# EAGLE library part NX3L2467 (library nxp_60_1_1)
The NX3L2467 is a dual low-ohmic double-pole double-throw analog switch suitable for use as an analog or digital multiplexer/demultiplexer. It consists of four switches, each with two independent input/outputs (nY0 and nY1) and a common input/output (nZ). The two digital inputs (1S and 2S) are used to select the switch position. 1S is used in selecting the independent inputs/outputs switched to 1Z and 2Z, and 2S is used in selecting the independent inputs/outputs switched to 3Z and 4Z. Schmitt trigger action at the select input (nS) makes the circuit tolerant to slower input rise and fall times across the entire VCC range from 1.4 V to 4.3 V. AAL Eindhoven MK
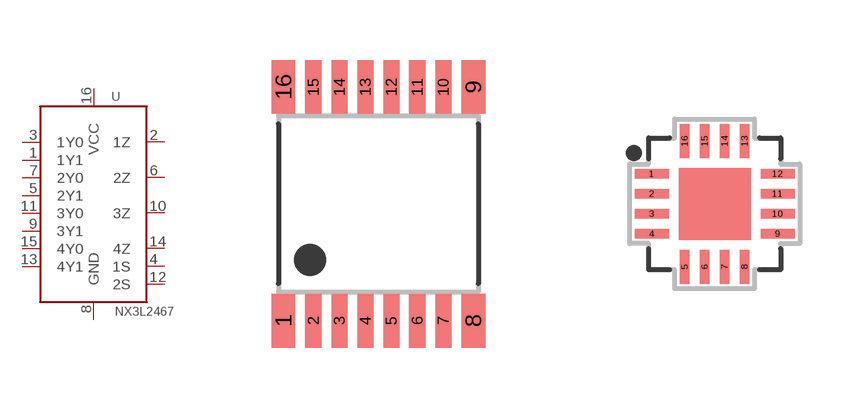
[diagram p29: symbol with the pads of SOT403-1; footprints SOT403-1, SOT1039-1]

Designator prefix U

## NX3L2467PW  [SOT403-1]
1  1Y1  in
2  1Z  out
3  1Y0  in
4  1S  in
5  2Y1  in
6  2Z  out
7  2Y0  in
8  GND  pwr
9  3Y1  in
10  3Z  out
11  3Y0  in
12  2S  in
13  4Y1  in
14  4Z  out
15  4Y0  in
16  VCC  pwr

## NX3L2467HR  [SOT1039-1]
1  1Y0  in
2  1S  in
3  2Y1  in
4  2Z  out
5  2Y0  in
6  GND  pwr
7  3Y1  in
8  3Z  out
9  3Y0  in
10  2S  in
11  4Y1  in
12  4Z  out
13  4Y0  in
14  VCC  pwr
15  1Y1  in
16  1Z  out

## NX3L2467GU  [SOT1161-1]
Pads as for SOT1039-1

## Footprint SOT403-1 (pad centres in mm)
SOT403-1 TSSOP16: plastic thin shrink small outline package; 16 leads; body width 4.4 mm JEDEC: MO-153 IEC: ---
smd 0.6 x 1.35: 1 -2.375,-2.925; 8 2.375,-2.925; 9 2.375,2.925; 16 -2.375,2.925
smd 0.4 x 1.35: 2 -1.625,-2.925; 3 -0.975,-2.925; 4 -0.325,-2.925; 5 0.325,-2.925; 6 0.975,-2.925; 7 1.625,-2.925; 10 1.625,2.925; 11 0.975,2.925; 12 0.325,2.925; 13 -0.325,2.925; 14 -0.975,2.925; 15 -1.625,2.925

## Footprint SOT1039-1 (pad centres in mm)
SOT1039-1 HXQFN16U: plastic thermal enhanced extremely thin quad flat package; no leads;16 terminals; UTLP based; body 3 x 3 x 0.5 mm JEDEC: -- IEC: --
smd 0.85 x 0.24: 1 -1.575,0.75; 2 -1.575,0.25; 3 -1.575,-0.25; 4 -1.575,-0.75; 9 1.575,-0.75; 10 1.575,-0.25; 11 1.575,0.25; 12 1.575,0.75
smd 0.24 x 0.85: 5 -0.75,-1.575; 6 -0.25,-1.575; 7 0.25,-1.575; 8 0.75,-1.575; 13 0.75,1.575; 14 0.25,1.575; 15 -0.25,1.575; 16 -0.75,1.575

## Footprint SOT1161-1 (pad centres in mm)
SOT1161-1 XQFN16: plastic, extremely thin quad flat package; no leads;16 terminals; body 1.80 x 2.60 x 0.50 mm JEDEC: -- IEC: --
smd 0.65 x 0.22: 1 -0.725,0.6
smd 0.55 x 0.22: 2 -0.775,0.2; 3 -0.775,-0.2; 4 -0.775,-0.6; 9 0.775,-0.6; 10 0.775,-0.2; 11 0.775,0.2; 12 0.775,0.6
smd 0.22 x 0.55: 5 -0.6,-1.175; 6 -0.2,-1.175; 7 0.2,-1.175; 8 0.6,-1.175; 13 0.6,1.175; 14 0.2,1.175; 15 -0.2,1.175; 16 -0.6,1.175